# Altium schematic symbol library WR-FPC.SchLib: 258 symbols (part 1 of 5)
Pins are listed as number, name and electrical type; pins without a type are passive.

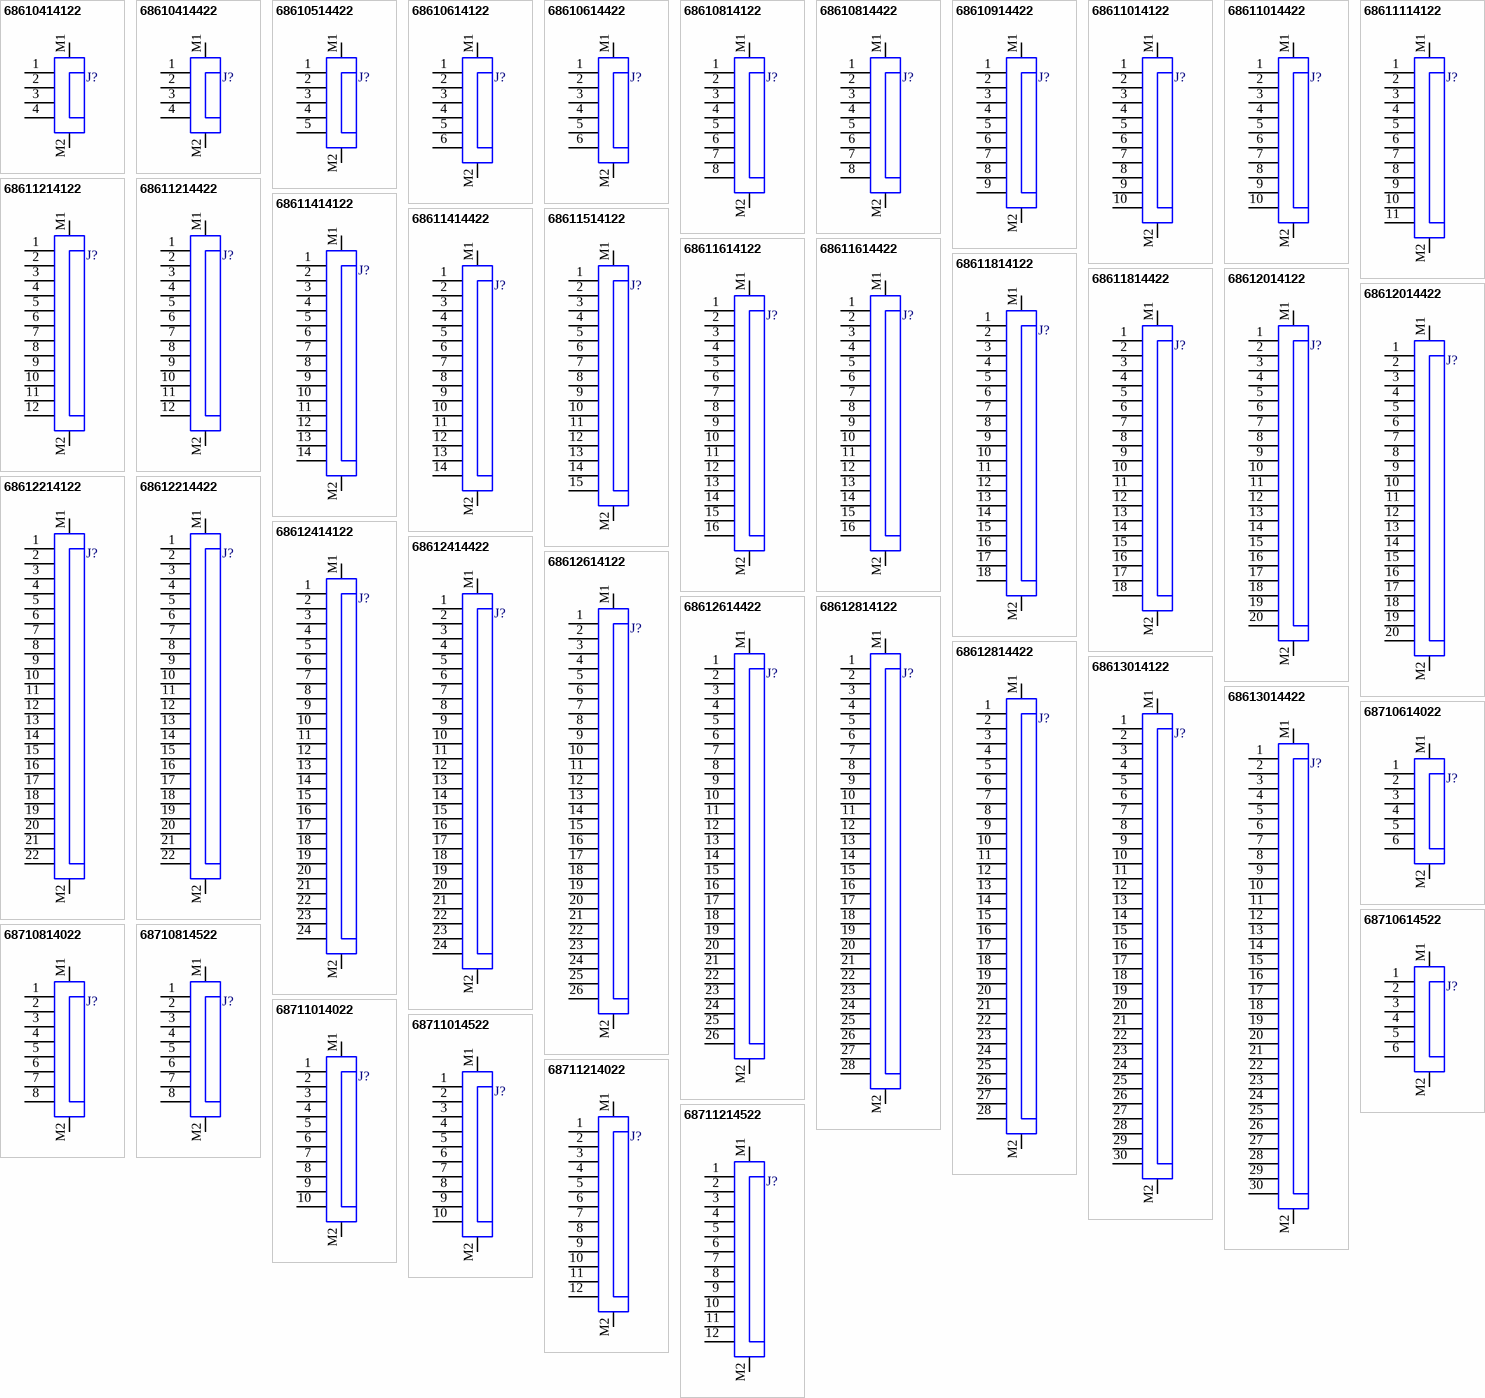
[diagram p0: symbols 68610414122 to 68711214522]

## 68610414122
designator J?  (value not drawn)
WR-FPC SMT ZIF Horizontal Top Contact, pitch 1mm, Horizontal, 4pins; Manufacturer: Wurth Elektronik; Contact Resistance: 20mΩ; Rated Current: 1A; Working Voltage: 125VAC; ComponentLink1Description: Website Link; ComponentLink1URL: https://www.we-online.com/redexpert/article/68610414122?ad; ComponentLink2Description: Datasheet Link; ComponentLink2URL: https://www.we-online.com/redexpert/spec/68610414122?ad; Manufacturer Part Number: 68610414122; Category: FPC Connectors; Match Code: WR-FPC; Mount: Surface Mount; Operating Temperature Max: 85°C; Operating Temperature Min: -25°C; Packaging: Tape and Reel; Length: 11mm; Width: 7.1mm; Height: 3mm; Number of Pins: 4; Orientation: Horizontal; Pitch: 1mm
footprint 68610414122
pins: 1, 2, 3, 4, M1, M2

## 68610414422
designator J?  (value not drawn)
WR-FPC SMT ZIF Horizontal Bottom Contact, pitch 1mm, Horizontal, 4pins; Manufacturer: Wurth Elektronik; Contact Resistance: 20mΩ; Rated Current: 1A; Working Voltage: 125VAC; ComponentLink1Description: Website Link; ComponentLink1URL: https://www.we-online.com/redexpert/article/68610414422?ad; ComponentLink2Description: Datasheet Link; ComponentLink2URL: https://www.we-online.com/redexpert/spec/68610414422?ad; Manufacturer Part Number: 68610414422; Category: FPC Connectors; Match Code: WR-FPC; Mount: Surface Mount; Operating Temperature Max: 85°C; Operating Temperature Min: -25°C; Packaging: Tape and Reel; Length: 11mm; Width: 7.1mm; Height: 3mm; Number of Pins: 4; Orientation: Horizontal; Pitch: 1mm
footprint 68610414422
pins: 1, 2, 3, 4, M1, M2

## 68610514422
designator J?  (value not drawn)
WR-FPC SMT ZIF Horizontal Bottom Contact, pitch 1mm, Horizontal, 5pins; Manufacturer: Wurth Elektronik; Contact Resistance: 20mΩ; Rated Current: 1A; Working Voltage: 125VAC; ComponentLink1Description: Website Link; ComponentLink1URL: https://www.we-online.com/redexpert/article/68610514422?ad; ComponentLink2Description: Datasheet Link; ComponentLink2URL: https://www.we-online.com/redexpert/spec/68610514422?ad; Manufacturer Part Number: 68610514422; Category: FPC Connectors; Match Code: WR-FPC; Mount: Surface Mount; Operating Temperature Max: 85°C; Operating Temperature Min: -25°C; Packaging: Tape and Reel; Length: 12mm; Width: 7.1mm; Height: 3mm; Number of Pins: 5; Orientation: Horizontal; Pitch: 1mm
footprint 68610514422
pins: 1, 2, 3, 4, 5, M1, M2

## 68610614122
designator J?  (value not drawn)
WR-FPC SMT ZIF Horizontal Top Contact, pitch 1mm, Horizontal, 6pins; Manufacturer: Wurth Elektronik; Contact Resistance: 20mΩ; Rated Current: 1A; Working Voltage: 125VAC; ComponentLink1Description: Website Link; ComponentLink1URL: https://www.we-online.com/redexpert/article/68610614122?ad; ComponentLink2Description: Datasheet Link; ComponentLink2URL: https://www.we-online.com/redexpert/spec/68610614122?ad; Manufacturer Part Number: 68610614122; Category: FPC Connectors; Match Code: WR-FPC; Mount: Surface Mount; Operating Temperature Max: 85°C; Operating Temperature Min: -25°C; Packaging: Tape and Reel; Length: 13mm; Width: 7.1mm; Height: 3mm; Number of Pins: 6; Orientation: Horizontal; Pitch: 1mm
footprint 68610614122
pins: 1, 2, 3, 4, 5, 6, M1, M2

## 68610614422
designator J?  (value not drawn)
WR-FPC SMT ZIF Horizontal Bottom Contact, pitch 1mm, Horizontal, 6pins; Manufacturer: Wurth Elektronik; Contact Resistance: 20mΩ; Rated Current: 1A; Working Voltage: 125VAC; ComponentLink1Description: Website Link; ComponentLink1URL: https://www.we-online.com/redexpert/article/68610614422?ad; ComponentLink2Description: Datasheet Link; ComponentLink2URL: https://www.we-online.com/redexpert/spec/68610614422?ad; Manufacturer Part Number: 68610614422; Category: FPC Connectors; Match Code: WR-FPC; Mount: Surface Mount; Operating Temperature Max: 85°C; Operating Temperature Min: -25°C; Packaging: Tape and Reel; Length: 13mm; Width: 7.1mm; Height: 3mm; Number of Pins: 6; Orientation: Horizontal; Pitch: 1mm
footprint 68610614422
pins: 1, 2, 3, 4, 5, 6, M1, M2

## 68610814122
designator J?  (value not drawn)
WR-FPC SMT ZIF Horizontal Top Contact, pitch 1mm, Horizontal, 8pins; Manufacturer: Wurth Elektronik; Contact Resistance: 20mΩ; Rated Current: 1A; Working Voltage: 125VAC; ComponentLink1Description: Website Link; ComponentLink1URL: https://www.we-online.com/redexpert/article/68610814122?ad; ComponentLink2Description: Datasheet Link; ComponentLink2URL: https://www.we-online.com/redexpert/spec/68610814122?ad; Manufacturer Part Number: 68610814122; Category: FPC Connectors; Match Code: WR-FPC; Mount: Surface Mount; Operating Temperature Max: 85°C; Operating Temperature Min: -25°C; Packaging: Tape and Reel; Length: 15mm; Width: 7.1mm; Height: 3mm; Number of Pins: 8; Orientation: Horizontal; Pitch: 1mm
footprint 68610814122
pins: 1, 2, 3, 4, 5, 6, 7, 8, M1, M2

## 68610814422
designator J?  (value not drawn)
WR-FPC SMT ZIF Horizontal Bottom Contact, pitch 1mm, Horizontal, 8pins; Manufacturer: Wurth Elektronik; Contact Resistance: 20mΩ; Rated Current: 1A; Working Voltage: 125VAC; ComponentLink1Description: Website Link; ComponentLink1URL: https://www.we-online.com/redexpert/article/68610814422?ad; ComponentLink2Description: Datasheet Link; ComponentLink2URL: https://www.we-online.com/redexpert/spec/68610814422?ad; Manufacturer Part Number: 68610814422; Category: FPC Connectors; Match Code: WR-FPC; Mount: Surface Mount; Operating Temperature Max: 85°C; Operating Temperature Min: -25°C; Packaging: Tape and Reel; Length: 15mm; Width: 7.1mm; Height: 3mm; Number of Pins: 8; Orientation: Horizontal; Pitch: 1mm
footprint 68610814422
pins: 1, 2, 3, 4, 5, 6, 7, 8, M1, M2

## 68610914422
designator J?  (value not drawn)
WR-FPC SMT ZIF Horizontal Bottom Contact, pitch 1mm, Horizontal, 9pins; Manufacturer: Wurth Elektronik; Contact Resistance: 20mΩ; Rated Current: 1A; Working Voltage: 125VAC; ComponentLink1Description: Website Link; ComponentLink1URL: https://www.we-online.com/redexpert/article/68610914422?ad; ComponentLink2Description: Datasheet Link; ComponentLink2URL: https://www.we-online.com/redexpert/spec/68610914422?ad; Manufacturer Part Number: 68610914422; Category: FPC Connectors; Match Code: WR-FPC; Mount: Surface Mount; Operating Temperature Max: 85°C; Operating Temperature Min: -25°C; Packaging: Tape and Reel; Length: 16mm; Width: 7.1mm; Height: 3mm; Number of Pins: 9; Orientation: Horizontal; Pitch: 1mm
footprint 68610914422
pins: 1, 2, 3, 4, 5, 6, 7, 8, 9, M1, M2

## 68611014122
designator J?  (value not drawn)
WR-FPC SMT ZIF Horizontal Top Contact, pitch 1mm, Horizontal, 10pins; Manufacturer: Wurth Elektronik; Contact Resistance: 20mΩ; Rated Current: 1A; Working Voltage: 125VAC; ComponentLink1Description: Website Link; ComponentLink1URL: https://www.we-online.com/redexpert/article/68611014122?ad; ComponentLink2Description: Datasheet Link; ComponentLink2URL: https://www.we-online.com/redexpert/spec/68611014122?ad; Manufacturer Part Number: 68611014122; Category: FPC Connectors; Match Code: WR-FPC; Mount: Surface Mount; Operating Temperature Max: 85°C; Operating Temperature Min: -25°C; Packaging: Tape and Reel; Length: 17mm; Width: 7.1mm; Height: 3mm; Number of Pins: 10; Orientation: Horizontal; Pitch: 1mm
footprint 68611014122
pins: 1, 2, 3, 4, 5, 6, 7, 8, 9, 10, M1, M2

## 68611014422
designator J?  (value not drawn)
WR-FPC SMT ZIF Horizontal Bottom Contact, pitch 1mm, Horizontal, 10pins; Manufacturer: Wurth Elektronik; Contact Resistance: 20mΩ; Rated Current: 1A; Working Voltage: 125VAC; ComponentLink1Description: Website Link; ComponentLink1URL: https://www.we-online.com/redexpert/article/68611014422?ad; ComponentLink2Description: Datasheet Link; ComponentLink2URL: https://www.we-online.com/redexpert/spec/68611014422?ad; Manufacturer Part Number: 68611014422; Category: FPC Connectors; Match Code: WR-FPC; Mount: Surface Mount; Operating Temperature Max: 85°C; Operating Temperature Min: -25°C; Packaging: Tape and Reel; Length: 17mm; Width: 7.1mm; Height: 3mm; Number of Pins: 10; Orientation: Horizontal; Pitch: 1mm
footprint 68611014422
pins: 1, 2, 3, 4, 5, 6, 7, 8, 9, 10, M1, M2

## 68611114122
designator J?  (value not drawn)
WR-FPC SMT ZIF Horizontal Top Contact, pitch 1mm, Horizontal, 11pins; Manufacturer: Wurth Elektronik; Contact Resistance: 20mΩ; Rated Current: 1A; Working Voltage: 125VAC; ComponentLink1Description: Website Link; ComponentLink1URL: https://www.we-online.com/redexpert/article/68611114122?ad; ComponentLink2Description: Datasheet Link; ComponentLink2URL: https://www.we-online.com/redexpert/spec/68611114122?ad; Manufacturer Part Number: 68611114122; Category: FPC Connectors; Match Code: WR-FPC; Mount: Surface Mount; Operating Temperature Max: 85°C; Operating Temperature Min: -25°C; Packaging: Tape and Reel; Length: 18mm; Width: 7.1mm; Height: 3mm; Number of Pins: 11; Orientation: Horizontal; Pitch: 1mm
footprint 68611114122
pins: 1, 2, 3, 4, 5, 6, 7, 8, 9, 10, 11, M1, M2

## 68611214122
designator J?  (value not drawn)
WR-FPC SMT ZIF Horizontal Top Contact, pitch 1mm, Horizontal, 12pins; Manufacturer: Wurth Elektronik; Contact Resistance: 20mΩ; Rated Current: 1A; Working Voltage: 125VAC; ComponentLink1Description: Website Link; ComponentLink1URL: https://www.we-online.com/redexpert/article/68611214122?ad; ComponentLink2Description: Datasheet Link; ComponentLink2URL: https://www.we-online.com/redexpert/spec/68611214122?ad; Manufacturer Part Number: 68611214122; Category: FPC Connectors; Match Code: WR-FPC; Mount: Surface Mount; Operating Temperature Max: 85°C; Operating Temperature Min: -25°C; Packaging: Tape and Reel; Length: 19mm; Width: 7.1mm; Height: 3mm; Number of Pins: 12; Orientation: Horizontal; Pitch: 1mm
footprint 68611214122
pins: 1, 2, 3, 4, 5, 6, 7, 8, 9, 10, 11, 12, M1, M2

## 68611214422
designator J?  (value not drawn)
WR-FPC SMT ZIF Horizontal Bottom Contact, pitch 1mm, Horizontal, 12pins; Manufacturer: Wurth Elektronik; Contact Resistance: 20mΩ; Rated Current: 1A; Working Voltage: 125VAC; ComponentLink1Description: Website Link; ComponentLink1URL: https://www.we-online.com/redexpert/article/68611214422?ad; ComponentLink2Description: Datasheet Link; ComponentLink2URL: https://www.we-online.com/redexpert/spec/68611214422?ad; Manufacturer Part Number: 68611214422; Category: FPC Connectors; Match Code: WR-FPC; Mount: Surface Mount; Operating Temperature Max: 85°C; Operating Temperature Min: -25°C; Packaging: Tape and Reel; Length: 19mm; Width: 7.1mm; Height: 3mm; Number of Pins: 12; Orientation: Horizontal; Pitch: 1mm
footprint 68611214422
pins: 1, 2, 3, 4, 5, 6, 7, 8, 9, 10, 11, 12, M1, M2

## 68611414122
designator J?  (value not drawn)
WR-FPC SMT ZIF Horizontal Top Contact, pitch 1mm, Horizontal, 14pins; Manufacturer: Wurth Elektronik; Contact Resistance: 20mΩ; Rated Current: 1A; Working Voltage: 125VAC; ComponentLink1Description: Website Link; ComponentLink1URL: https://www.we-online.com/redexpert/article/68611414122?ad; ComponentLink2Description: Datasheet Link; ComponentLink2URL: https://www.we-online.com/redexpert/spec/68611414122?ad; Manufacturer Part Number: 68611414122; Category: FPC Connectors; Match Code: WR-FPC; Mount: Surface Mount; Operating Temperature Max: 85°C; Operating Temperature Min: -25°C; Packaging: Tape and Reel; Length: 21mm; Width: 7.1mm; Height: 3mm; Number of Pins: 14; Orientation: Horizontal; Pitch: 1mm
footprint 68611414122
pins: 1, 2, 3, 4, 5, 6, 7, 8, 9, 10, 11, 12, 13, 14, M1, M2

## 68611414422
designator J?  (value not drawn)
WR-FPC SMT ZIF Horizontal Bottom Contact, pitch 1mm, Horizontal, 14pins; Manufacturer: Wurth Elektronik; Contact Resistance: 20mΩ; Rated Current: 1A; Working Voltage: 125VAC; ComponentLink1Description: Website Link; ComponentLink1URL: https://www.we-online.com/redexpert/article/68611414422?ad; ComponentLink2Description: Datasheet Link; ComponentLink2URL: https://www.we-online.com/redexpert/spec/68611414422?ad; Manufacturer Part Number: 68611414422; Category: FPC Connectors; Match Code: WR-FPC; Mount: Surface Mount; Operating Temperature Max: 85°C; Operating Temperature Min: -25°C; Packaging: Tape and Reel; Length: 21mm; Width: 7.1mm; Height: 3mm; Number of Pins: 14; Orientation: Horizontal; Pitch: 1mm
footprint 68611414422
pins: 1, 2, 3, 4, 5, 6, 7, 8, 9, 10, 11, 12, 13, 14, M1, M2

## 68611514122
designator J?  (value not drawn)
WR-FPC SMT ZIF Horizontal Top Contact, pitch 1mm, Horizontal, 15pins; Manufacturer: Wurth Elektronik; Contact Resistance: 20mΩ; Rated Current: 1A; Working Voltage: 125VAC; ComponentLink1Description: Website Link; ComponentLink1URL: https://www.we-online.com/redexpert/article/68611514122?ad; ComponentLink2Description: Datasheet Link; ComponentLink2URL: https://www.we-online.com/redexpert/spec/68611514122?ad; Manufacturer Part Number: 68611514122; Category: FPC Connectors; Match Code: WR-FPC; Mount: Surface Mount; Operating Temperature Max: 85°C; Operating Temperature Min: -25°C; Packaging: Tape and Reel; Length: 22mm; Width: 7.1mm; Height: 3mm; Number of Pins: 15; Orientation: Horizontal; Pitch: 1mm
footprint 68611514122
pins: 1, 2, 3, 4, 5, 6, 7, 8, 9, 10, 11, 12, 13, 14, 15, M1, M2

## 68611614122
designator J?  (value not drawn)
WR-FPC SMT ZIF Horizontal Top Contact, pitch 1mm, Horizontal, 16pins; Manufacturer: Wurth Elektronik; Contact Resistance: 20mΩ; Rated Current: 1A; Working Voltage: 125VAC; ComponentLink1Description: Website Link; ComponentLink1URL: https://www.we-online.com/redexpert/article/68611614122?ad; ComponentLink2Description: Datasheet Link; ComponentLink2URL: https://www.we-online.com/redexpert/spec/68611614122?ad; Manufacturer Part Number: 68611614122; Category: FPC Connectors; Match Code: WR-FPC; Mount: Surface Mount; Operating Temperature Max: 85°C; Operating Temperature Min: -25°C; Packaging: Tape and Reel; Length: 23mm; Width: 7.1mm; Height: 3mm; Number of Pins: 16; Orientation: Horizontal; Pitch: 1mm
footprint 68611614122
pins: 1, 2, 3, 4, 5, 6, 7, 8, 9, 10, 11, 12, 13, 14, 15, 16, M1, M2

## 68611614422
designator J?  (value not drawn)
WR-FPC SMT ZIF Horizontal Bottom Contact, pitch 1mm, Horizontal, 16pins; Manufacturer: Wurth Elektronik; Contact Resistance: 20mΩ; Rated Current: 1A; Working Voltage: 125VAC; ComponentLink1Description: Website Link; ComponentLink1URL: https://www.we-online.com/redexpert/article/68611614422?ad; ComponentLink2Description: Datasheet Link; ComponentLink2URL: https://www.we-online.com/redexpert/spec/68611614422?ad; Manufacturer Part Number: 68611614422; Category: FPC Connectors; Match Code: WR-FPC; Mount: Surface Mount; Operating Temperature Max: 85°C; Operating Temperature Min: -25°C; Packaging: Tape and Reel; Length: 23mm; Width: 7.1mm; Height: 3mm; Number of Pins: 16; Orientation: Horizontal; Pitch: 1mm
footprint 68611614422
pins: 1, 2, 3, 4, 5, 6, 7, 8, 9, 10, 11, 12, 13, 14, 15, 16, M1, M2

## 68611814122
designator J?  (value not drawn)
WR-FPC SMT ZIF Horizontal Top Contact, pitch 1mm, Horizontal, 18pins; Manufacturer: Wurth Elektronik; Contact Resistance: 20mΩ; Rated Current: 1A; Working Voltage: 125VAC; ComponentLink1Description: Website Link; ComponentLink1URL: https://www.we-online.com/redexpert/article/68611814122?ad; ComponentLink2Description: Datasheet Link; ComponentLink2URL: https://www.we-online.com/redexpert/spec/68611814122?ad; Manufacturer Part Number: 68611814122; Category: FPC Connectors; Match Code: WR-FPC; Mount: Surface Mount; Operating Temperature Max: 85°C; Operating Temperature Min: -25°C; Packaging: Tape and Reel; Length: 25mm; Width: 7.1mm; Height: 3mm; Number of Pins: 18; Orientation: Horizontal; Pitch: 1mm
footprint 68611814122
pins: 1, 2, 3, 4, 5, 6, 7, 8, 9, 10, 11, 12, 13, 14, 15, 16, 17, 18, M1, M2

## 68611814422
designator J?  (value not drawn)
WR-FPC SMT ZIF Horizontal Bottom Contact, pitch 1mm, Horizontal, 18pins; Manufacturer: Wurth Elektronik; Contact Resistance: 20mΩ; Rated Current: 1A; Working Voltage: 125VAC; ComponentLink1Description: Website Link; ComponentLink1URL: https://www.we-online.com/redexpert/article/68611814422?ad; ComponentLink2Description: Datasheet Link; ComponentLink2URL: https://www.we-online.com/redexpert/spec/68611814422?ad; Manufacturer Part Number: 68611814422; Category: FPC Connectors; Match Code: WR-FPC; Mount: Surface Mount; Operating Temperature Max: 85°C; Operating Temperature Min: -25°C; Packaging: Tape and Reel; Length: 25mm; Width: 7.1mm; Height: 3mm; Number of Pins: 18; Orientation: Horizontal; Pitch: 1mm
footprint 68611814422
pins: 1, 2, 3, 4, 5, 6, 7, 8, 9, 10, 11, 12, 13, 14, 15, 16, 17, 18, M1, M2

## 68612014122
designator J?  (value not drawn)
WR-FPC SMT ZIF Horizontal Top Contact, pitch 1mm, Horizontal, 20pins; Manufacturer: Wurth Elektronik; Contact Resistance: 20mΩ; Rated Current: 1A; Working Voltage: 125VAC; ComponentLink1Description: Website Link; ComponentLink1URL: https://www.we-online.com/redexpert/article/68612014122?ad; ComponentLink2Description: Datasheet Link; ComponentLink2URL: https://www.we-online.com/redexpert/spec/68612014122?ad; Manufacturer Part Number: 68612014122; Category: FPC Connectors; Match Code: WR-FPC; Mount: Surface Mount; Operating Temperature Max: 85°C; Operating Temperature Min: -25°C; Packaging: Tape and Reel; Length: 27mm; Width: 7.1mm; Height: 3mm; Number of Pins: 20; Orientation: Horizontal; Pitch: 1mm
footprint 68612014122
pins: 1, 2, 3, 4, 5, 6, 7, 8, 9, 10, 11, 12, 13, 14, 15, 16, 17, 18, 19, 20, M1, M2

## 68612014422
designator J?  (value not drawn)
WR-FPC SMT ZIF Horizontal Bottom Contact, pitch 1mm, Horizontal, 20pins; Manufacturer: Wurth Elektronik; Contact Resistance: 20mΩ; Rated Current: 1A; Working Voltage: 125VAC; ComponentLink1Description: Website Link; ComponentLink1URL: https://www.we-online.com/redexpert/article/68612014422?ad; ComponentLink2Description: Datasheet Link; ComponentLink2URL: https://www.we-online.com/redexpert/spec/68612014422?ad; Manufacturer Part Number: 68612014422; Category: FPC Connectors; Match Code: WR-FPC; Mount: Surface Mount; Operating Temperature Max: 85°C; Operating Temperature Min: -25°C; Packaging: Tape and Reel; Length: 27mm; Width: 7.1mm; Height: 3mm; Number of Pins: 20; Orientation: Horizontal; Pitch: 1mm
footprint 68612014422
pins: 1, 2, 3, 4, 5, 6, 7, 8, 9, 10, 11, 12, 13, 14, 15, 16, 17, 18, 19, 20, M1, M2

## 68612214122
designator J?  (value not drawn)
WR-FPC SMT ZIF Horizontal Top Contact, pitch 1mm, Horizontal, 22pins; Manufacturer: Wurth Elektronik; Contact Resistance: 20mΩ; Rated Current: 1A; Working Voltage: 125VAC; ComponentLink1Description: Website Link; ComponentLink1URL: https://www.we-online.com/redexpert/article/68612214122?ad; ComponentLink2Description: Datasheet Link; ComponentLink2URL: https://www.we-online.com/redexpert/spec/68612214122?ad; Manufacturer Part Number: 68612214122; Category: FPC Connectors; Match Code: WR-FPC; Mount: Surface Mount; Operating Temperature Max: 85°C; Operating Temperature Min: -25°C; Packaging: Tape and Reel; Length: 29mm; Width: 7.1mm; Height: 3mm; Number of Pins: 22; Orientation: Horizontal; Pitch: 1mm
footprint 68612214122
pins: 1, 2, 3, 4, 5, 6, 7, 8, 9, 10, 11, 12, 13, 14, 15, 16, 17, 18, 19, 20, 21, 22, M1, M2

## 68612214422
designator J?  (value not drawn)
WR-FPC SMT ZIF Horizontal Bottom Contact, pitch 1mm, Horizontal, 22pins; Manufacturer: Wurth Elektronik; Contact Resistance: 20mΩ; Rated Current: 1A; Working Voltage: 125VAC; ComponentLink1Description: Website Link; ComponentLink1URL: https://www.we-online.com/redexpert/article/68612214422?ad; ComponentLink2Description: Datasheet Link; ComponentLink2URL: https://www.we-online.com/redexpert/spec/68612214422?ad; Manufacturer Part Number: 68612214422; Category: FPC Connectors; Match Code: WR-FPC; Mount: Surface Mount; Operating Temperature Max: 85°C; Operating Temperature Min: -25°C; Packaging: Tape and Reel; Length: 29mm; Width: 7.1mm; Height: 3mm; Number of Pins: 22; Orientation: Horizontal; Pitch: 1mm
footprint 68612214422
pins: 1, 2, 3, 4, 5, 6, 7, 8, 9, 10, 11, 12, 13, 14, 15, 16, 17, 18, 19, 20, 21, 22, M1, M2

## 68612414122
designator J?  (value not drawn)
WR-FPC SMT ZIF Horizontal Top Contact, pitch 1mm, Horizontal, 24pins; Manufacturer: Wurth Elektronik; Contact Resistance: 20mΩ; Rated Current: 1A; Working Voltage: 125VAC; ComponentLink1Description: Website Link; ComponentLink1URL: https://www.we-online.com/redexpert/article/68612414122?ad; ComponentLink2Description: Datasheet Link; ComponentLink2URL: https://www.we-online.com/redexpert/spec/68612414122?ad; Manufacturer Part Number: 68612414122; Category: FPC Connectors; Match Code: WR-FPC; Mount: Surface Mount; Operating Temperature Max: 85°C; Operating Temperature Min: -25°C; Packaging: Tape and Reel; Length: 31mm; Width: 7.1mm; Height: 3mm; Number of Pins: 24; Orientation: Horizontal; Pitch: 1mm
footprint 68612414122
pins: 1, 2, 3, 4, 5, 6, 7, 8, 9, 10, 11, 12, 13, 14, 15, 16, 17, 18, 19, 20, 21, 22, 23, 24, M1, M2

## 68612414422
designator J?  (value not drawn)
WR-FPC SMT ZIF Horizontal Bottom Contact, pitch 1mm, Horizontal, 24pins; Manufacturer: Wurth Elektronik; Contact Resistance: 20mΩ; Rated Current: 1A; Working Voltage: 125VAC; ComponentLink1Description: Website Link; ComponentLink1URL: https://www.we-online.com/redexpert/article/68612414422?ad; ComponentLink2Description: Datasheet Link; ComponentLink2URL: https://www.we-online.com/redexpert/spec/68612414422?ad; Manufacturer Part Number: 68612414422; Category: FPC Connectors; Match Code: WR-FPC; Mount: Surface Mount; Operating Temperature Max: 85°C; Operating Temperature Min: -25°C; Packaging: Tape and Reel; Length: 31mm; Width: 7.1mm; Height: 3mm; Number of Pins: 24; Orientation: Horizontal; Pitch: 1mm
footprint 68612414422
pins: 1, 2, 3, 4, 5, 6, 7, 8, 9, 10, 11, 12, 13, 14, 15, 16, 17, 18, 19, 20, 21, 22, 23, 24, M1, M2

## 68612614122
designator J?  (value not drawn)
WR-FPC SMT ZIF Horizontal Top Contact, pitch 1mm, Horizontal, 26pins; Manufacturer: Wurth Elektronik; Contact Resistance: 20mΩ; Rated Current: 1A; Working Voltage: 125VAC; ComponentLink1Description: Website Link; ComponentLink1URL: https://www.we-online.com/redexpert/article/68612614122?ad; ComponentLink2Description: Datasheet Link; ComponentLink2URL: https://www.we-online.com/redexpert/spec/68612614122?ad; Manufacturer Part Number: 68612614122; Category: FPC Connectors; Match Code: WR-FPC; Mount: Surface Mount; Operating Temperature Max: 85°C; Operating Temperature Min: -25°C; Packaging: Tape and Reel; Length: 33mm; Width: 7.1mm; Height: 3mm; Number of Pins: 26; Orientation: Horizontal; Pitch: 1mm
footprint 68612614122
pins: 1, 2, 3, 4, 5, 6, 7, 8, 9, 10, 11, 12, 13, 14, 15, 16, 17, 18, 19, 20, 21, 22, 23, 24, 25, 26, M1, M2

## 68612614422
designator J?  (value not drawn)
WR-FPC SMT ZIF Horizontal Bottom Contact, pitch 1mm, Horizontal, 26pins; Manufacturer: Wurth Elektronik; Contact Resistance: 20mΩ; Rated Current: 1A; Working Voltage: 125VAC; ComponentLink1Description: Website Link; ComponentLink1URL: https://www.we-online.com/redexpert/article/68612614422?ad; ComponentLink2Description: Datasheet Link; ComponentLink2URL: https://www.we-online.com/redexpert/spec/68612614422?ad; Manufacturer Part Number: 68612614422; Category: FPC Connectors; Match Code: WR-FPC; Mount: Surface Mount; Operating Temperature Max: 85°C; Operating Temperature Min: -25°C; Packaging: Tape and Reel; Length: 33mm; Width: 7.1mm; Height: 3mm; Number of Pins: 26; Orientation: Horizontal; Pitch: 1mm
footprint 68612614422
pins: 1, 2, 3, 4, 5, 6, 7, 8, 9, 10, 11, 12, 13, 14, 15, 16, 17, 18, 19, 20, 21, 22, 23, 24, 25, 26, M1, M2

## 68612814122
designator J?  (value not drawn)
WR-FPC SMT ZIF Horizontal Top Contact, pitch 1mm, Horizontal, 28pins; Manufacturer: Wurth Elektronik; Contact Resistance: 20mΩ; Rated Current: 1A; Working Voltage: 125VAC; ComponentLink1Description: Website Link; ComponentLink1URL: https://www.we-online.com/redexpert/article/68612814122?ad; ComponentLink2Description: Datasheet Link; ComponentLink2URL: https://www.we-online.com/redexpert/spec/68612814122?ad; Manufacturer Part Number: 68612814122; Category: FPC Connectors; Match Code: WR-FPC; Mount: Surface Mount; Operating Temperature Max: 85°C; Operating Temperature Min: -25°C; Packaging: Tape and Reel; Length: 35mm; Width: 7.1mm; Height: 3mm; Number of Pins: 28; Orientation: Horizontal; Pitch: 1mm
footprint 68612814122
pins: 1, 2, 3, 4, 5, 6, 7, 8, 9, 10, 11, 12, 13, 14, 15, 16, 17, 18, 19, 20, 21, 22, 23, 24, 25, 26, 27, 28, M1, M2

## 68612814422
designator J?  (value not drawn)
WR-FPC SMT ZIF Horizontal Bottom Contact, pitch 1mm, Horizontal, 28pins; Manufacturer: Wurth Elektronik; Contact Resistance: 20mΩ; Rated Current: 1A; Working Voltage: 125VAC; ComponentLink1Description: Website Link; ComponentLink1URL: https://www.we-online.com/redexpert/article/68612814422?ad; ComponentLink2Description: Datasheet Link; ComponentLink2URL: https://www.we-online.com/redexpert/spec/68612814422?ad; Manufacturer Part Number: 68612814422; Category: FPC Connectors; Match Code: WR-FPC; Mount: Surface Mount; Operating Temperature Max: 85°C; Operating Temperature Min: -25°C; Packaging: Tape and Reel; Length: 35mm; Width: 7.1mm; Height: 3mm; Number of Pins: 28; Orientation: Horizontal; Pitch: 1mm
footprint 68612814422
pins: 1, 2, 3, 4, 5, 6, 7, 8, 9, 10, 11, 12, 13, 14, 15, 16, 17, 18, 19, 20, 21, 22, 23, 24, 25, 26, 27, 28, M1, M2

## 68613014122
designator J?  (value not drawn)
WR-FPC SMT ZIF Horizontal Top Contact, pitch 1mm, Horizontal, 30pins; Manufacturer: Wurth Elektronik; Contact Resistance: 20mΩ; Rated Current: 1A; Working Voltage: 125VAC; ComponentLink1Description: Website Link; ComponentLink1URL: https://www.we-online.com/redexpert/article/68613014122?ad; ComponentLink2Description: Datasheet Link; ComponentLink2URL: https://www.we-online.com/redexpert/spec/68613014122?ad; Manufacturer Part Number: 68613014122; Category: FPC Connectors; Match Code: WR-FPC; Mount: Surface Mount; Operating Temperature Max: 85°C; Operating Temperature Min: -25°C; Packaging: Tape and Reel; Length: 37mm; Width: 7.1mm; Height: 3mm; Number of Pins: 30; Orientation: Horizontal; Pitch: 1mm
footprint 68613014122
pins: 1, 2, 3, 4, 5, 6, 7, 8, 9, 10, 11, 12, 13, 14, 15, 16, 17, 18, 19, 20, 21, 22, 23, 24, 25, 26, 27, 28, 29, 30, M1, M2

## 68613014422
designator J?  (value not drawn)
WR-FPC SMT ZIF Horizontal Bottom Contact, pitch 1mm, Horizontal, 30pins; Manufacturer: Wurth Elektronik; Contact Resistance: 20mΩ; Rated Current: 1A; Working Voltage: 125VAC; ComponentLink1Description: Website Link; ComponentLink1URL: https://www.we-online.com/redexpert/article/68613014422?ad; ComponentLink2Description: Datasheet Link; ComponentLink2URL: https://www.we-online.com/redexpert/spec/68613014422?ad; Manufacturer Part Number: 68613014422; Category: FPC Connectors; Match Code: WR-FPC; Mount: Surface Mount; Operating Temperature Max: 85°C; Operating Temperature Min: -25°C; Packaging: Tape and Reel; Length: 37mm; Width: 7.1mm; Height: 3mm; Number of Pins: 30; Orientation: Horizontal; Pitch: 1mm
footprint 68613014422
pins: 1, 2, 3, 4, 5, 6, 7, 8, 9, 10, 11, 12, 13, 14, 15, 16, 17, 18, 19, 20, 21, 22, 23, 24, 25, 26, 27, 28, 29, 30, M1, M2

## 68710614022
designator J?  (value not drawn)
WR-FPC SMT ZIF Horizontal Top Contact, pitch 0.5mm, Horizontal, 6pins; Manufacturer: Wurth Elektronik; Contact Resistance: 20mΩ; Rated Current: 0.5A; Working Voltage: 50VAC; ComponentLink1Description: Website Link; ComponentLink1URL: https://www.we-online.com/redexpert/article/68710614022?ad; ComponentLink2Description: Datasheet Link; ComponentLink2URL: https://www.we-online.com/redexpert/spec/68710614022?ad; Manufacturer Part Number: 68710614022; Category: FPC Connectors; Match Code: WR-FPC; Mount: Surface Mount; Operating Temperature Max: 85°C; Operating Temperature Min: -25°C; Packaging: Tape and Reel; Length: 9.4mm; Width: 5.1mm; Height: 2.1mm; Number of Pins: 6; Orientation: Horizontal; Pitch: 0.5mm
footprint 68710614022
pins: 1, 2, 3, 4, 5, 6, M1, M2

## 68710614522
designator J?  (value not drawn)
WR-FPC SMT ZIF Horizontal Bottom Contact, pitch 0.5mm, Horizontal, 6pins; Manufacturer: Wurth Elektronik; Contact Resistance: 20mΩ; Rated Current: 0.5A; Working Voltage: 50VAC; ComponentLink1Description: Website Link; ComponentLink1URL: https://www.we-online.com/redexpert/article/68710614522?ad; ComponentLink2Description: Datasheet Link; ComponentLink2URL: https://www.we-online.com/redexpert/spec/68710614522?ad; Manufacturer Part Number: 68710614522; Category: FPC Connectors; Match Code: WR-FPC; Mount: Surface Mount; Operating Temperature Max: 85°C; Operating Temperature Min: -25°C; Packaging: Tape and Reel; Length: 9.4mm; Width: 5.1mm; Height: 2.1mm; Number of Pins: 6; Orientation: Horizontal; Pitch: 0.5mm
footprint 68710614522
pins: 1, 2, 3, 4, 5, 6, M1, M2

## 68710814022
designator J?  (value not drawn)
WR-FPC SMT ZIF Horizontal Top Contact, pitch 0.5mm, Horizontal, 8pins; Manufacturer: Wurth Elektronik; Contact Resistance: 20mΩ; Rated Current: 0.5A; Working Voltage: 50VAC; ComponentLink1Description: Website Link; ComponentLink1URL: https://www.we-online.com/redexpert/article/68710814022?ad; ComponentLink2Description: Datasheet Link; ComponentLink2URL: https://www.we-online.com/redexpert/spec/68710814022?ad; Manufacturer Part Number: 68710814022; Category: FPC Connectors; Match Code: WR-FPC; Mount: Surface Mount; Operating Temperature Max: 85°C; Operating Temperature Min: -25°C; Packaging: Tape and Reel; Length: 10.4mm; Width: 5.1mm; Height: 2.1mm; Number of Pins: 8; Orientation: Horizontal; Pitch: 0.5mm
footprint 68710814022
pins: 1, 2, 3, 4, 5, 6, 7, 8, M1, M2

## 68710814522
designator J?  (value not drawn)
WR-FPC SMT ZIF Horizontal Bottom Contact, pitch 0.5mm, Horizontal, 8pins; Manufacturer: Wurth Elektronik; Contact Resistance: 20mΩ; Rated Current: 0.5A; Working Voltage: 50VAC; ComponentLink1Description: Website Link; ComponentLink1URL: https://www.we-online.com/redexpert/article/68710814522?ad; ComponentLink2Description: Datasheet Link; ComponentLink2URL: https://www.we-online.com/redexpert/spec/68710814522?ad; Manufacturer Part Number: 68710814522; Category: FPC Connectors; Match Code: WR-FPC; Mount: Surface Mount; Operating Temperature Max: 85°C; Operating Temperature Min: -25°C; Packaging: Tape and Reel; Length: 10.4mm; Width: 5.1mm; Height: 2.1mm; Number of Pins: 8; Orientation: Horizontal; Pitch: 0.5mm
footprint 68710814522
pins: 1, 2, 3, 4, 5, 6, 7, 8, M1, M2

## 68711014022
designator J?  (value not drawn)
WR-FPC SMT ZIF Horizontal Top Contact, pitch 0.5mm, Horizontal, 10pins; Manufacturer: Wurth Elektronik; Contact Resistance: 20mΩ; Rated Current: 0.5A; Working Voltage: 50VAC; ComponentLink1Description: Website Link; ComponentLink1URL: https://www.we-online.com/redexpert/article/68711014022?ad; ComponentLink2Description: Datasheet Link; ComponentLink2URL: https://www.we-online.com/redexpert/spec/68711014022?ad; Manufacturer Part Number: 68711014022; Category: FPC Connectors; Match Code: WR-FPC; Mount: Surface Mount; Operating Temperature Max: 85°C; Operating Temperature Min: -25°C; Packaging: Tape and Reel; Length: 11.4mm; Width: 5.1mm; Height: 2.1mm; Number of Pins: 10; Orientation: Horizontal; Pitch: 0.5mm
footprint 68711014022
pins: 1, 2, 3, 4, 5, 6, 7, 8, 9, 10, M1, M2

## 68711014522
designator J?  (value not drawn)
WR-FPC SMT ZIF Horizontal Bottom Contact, pitch 0.5mm, Horizontal, 10pins; Manufacturer: Wurth Elektronik; Contact Resistance: 20mΩ; Rated Current: 0.5A; Working Voltage: 50VAC; ComponentLink1Description: Website Link; ComponentLink1URL: https://www.we-online.com/redexpert/article/68711014522?ad; ComponentLink2Description: Datasheet Link; ComponentLink2URL: https://www.we-online.com/redexpert/spec/68711014522?ad; Manufacturer Part Number: 68711014522; Category: FPC Connectors; Match Code: WR-FPC; Mount: Surface Mount; Operating Temperature Max: 85°C; Operating Temperature Min: -25°C; Packaging: Tape and Reel; Length: 11.4mm; Width: 5.1mm; Height: 2.1mm; Number of Pins: 10; Orientation: Horizontal; Pitch: 0.5mm
footprint 68711014522
pins: 1, 2, 3, 4, 5, 6, 7, 8, 9, 10, M1, M2

## 68711214022
designator J?  (value not drawn)
WR-FPC SMT ZIF Horizontal Top Contact, pitch 0.5mm, Horizontal, 12pins; Manufacturer: Wurth Elektronik; Contact Resistance: 20mΩ; Rated Current: 0.5A; Working Voltage: 50VAC; ComponentLink1Description: Website Link; ComponentLink1URL: https://www.we-online.com/redexpert/article/68711214022?ad; ComponentLink2Description: Datasheet Link; ComponentLink2URL: https://www.we-online.com/redexpert/spec/68711214022?ad; Manufacturer Part Number: 68711214022; Category: FPC Connectors; Match Code: WR-FPC; Mount: Surface Mount; Operating Temperature Max: 85°C; Operating Temperature Min: -25°C; Packaging: Tape and Reel; Length: 12.4mm; Width: 5.1mm; Height: 2.1mm; Number of Pins: 12; Orientation: Horizontal; Pitch: 0.5mm
footprint 68711214022
pins: 1, 2, 3, 4, 5, 6, 7, 8, 9, 10, 11, 12, M1, M2

## 68711214522
designator J?  (value not drawn)
WR-FPC SMT ZIF Horizontal Bottom Contact, pitch 0.5mm, Horizontal, 12pins; Manufacturer: Wurth Elektronik; Contact Resistance: 20mΩ; Rated Current: 0.5A; Working Voltage: 50VAC; ComponentLink1Description: Website Link; ComponentLink1URL: https://www.we-online.com/redexpert/article/68711214522?ad; ComponentLink2Description: Datasheet Link; ComponentLink2URL: https://www.we-online.com/redexpert/spec/68711214522?ad; Manufacturer Part Number: 68711214522; Category: FPC Connectors; Match Code: WR-FPC; Mount: Surface Mount; Operating Temperature Max: 85°C; Operating Temperature Min: -25°C; Packaging: Tape and Reel; Length: 12.4mm; Width: 5.1mm; Height: 2.1mm; Number of Pins: 12; Orientation: Horizontal; Pitch: 0.5mm
footprint 68711214522
pins: 1, 2, 3, 4, 5, 6, 7, 8, 9, 10, 11, 12, M1, M2

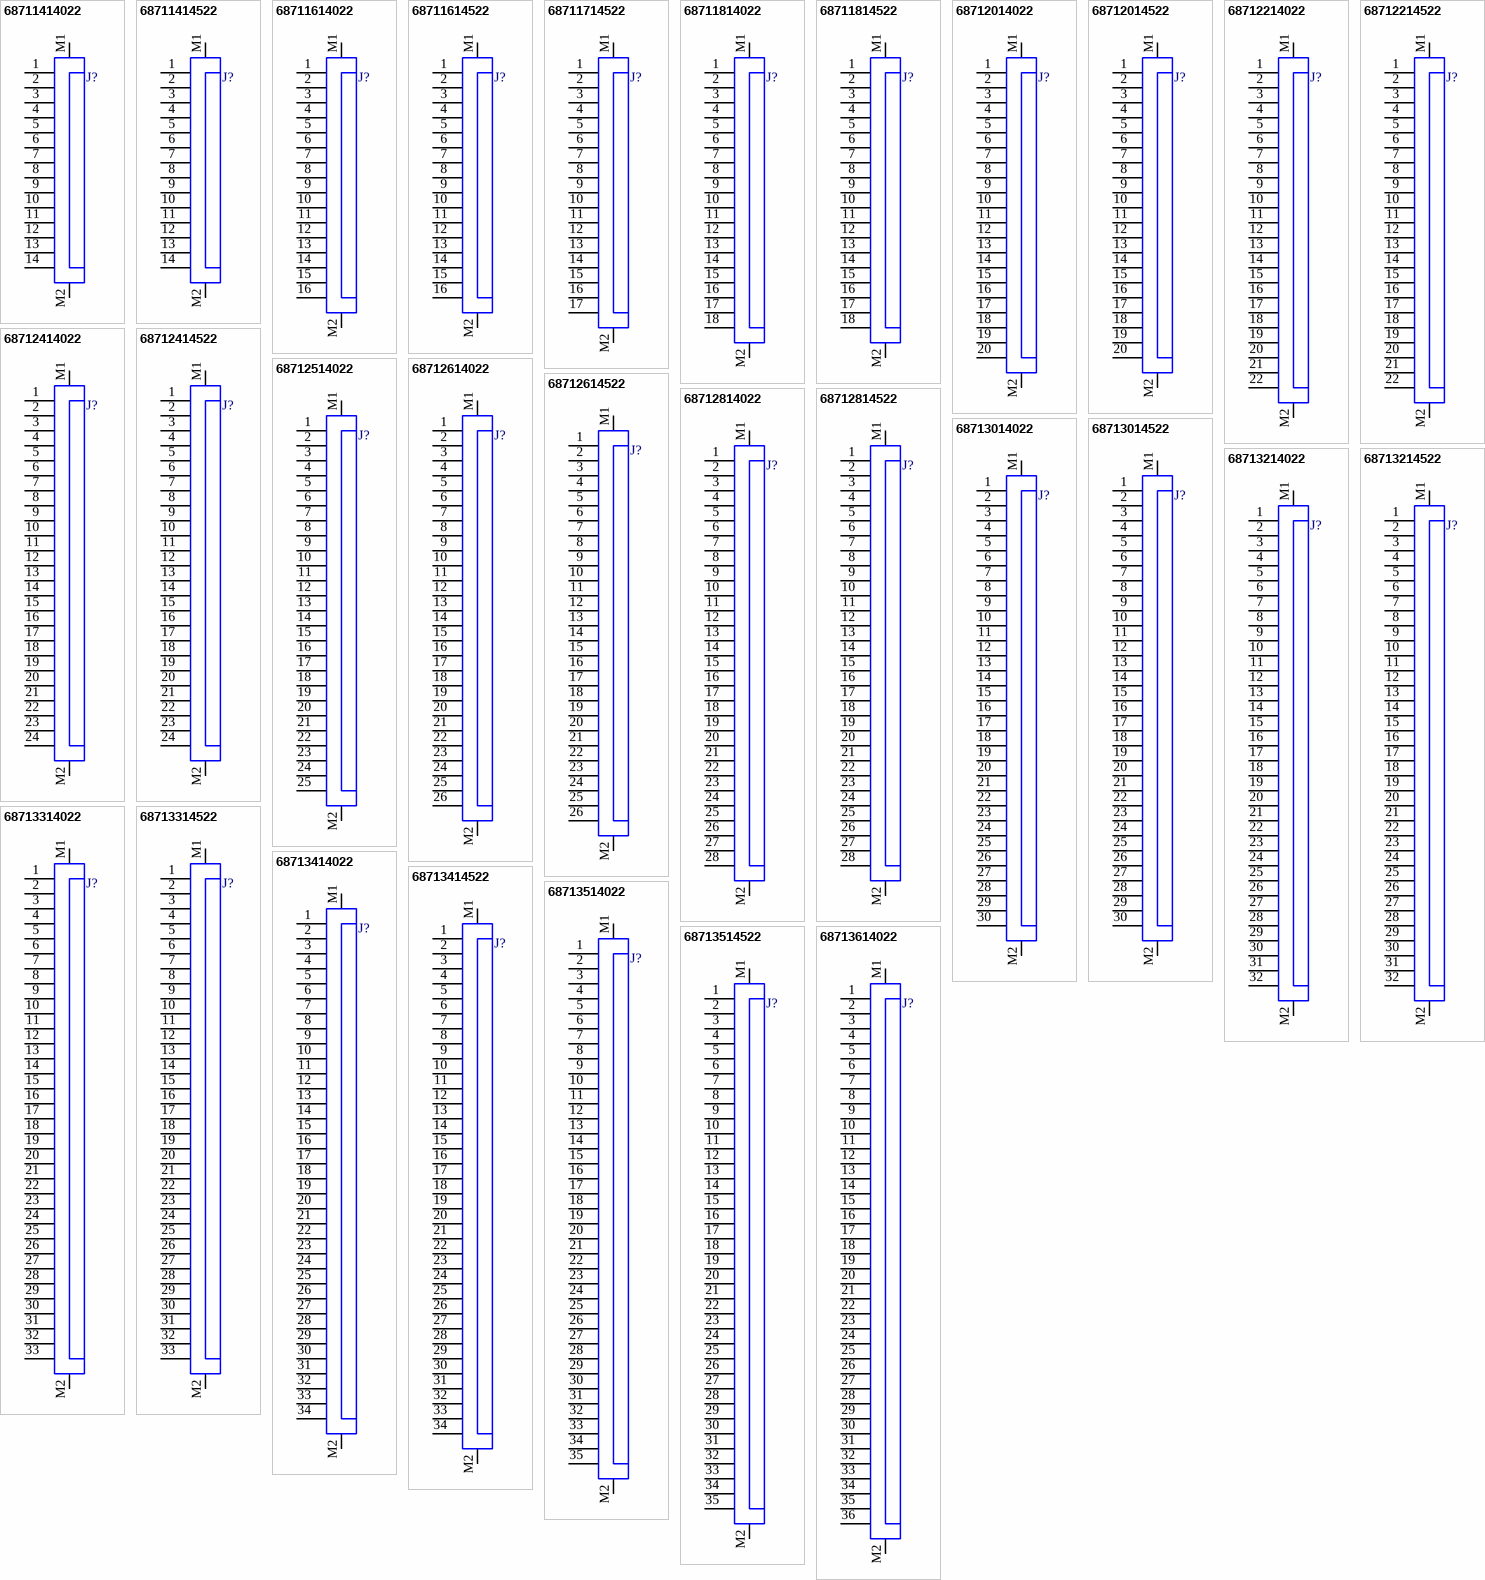
[diagram p1: symbols 68711414022 to 68713614022]

## 68711414022
designator J?  (value not drawn)
WR-FPC SMT ZIF Horizontal Top Contact, pitch 0.5mm, Horizontal, 14pins; Manufacturer: Wurth Elektronik; Contact Resistance: 20mΩ; Rated Current: 0.5A; Working Voltage: 50VAC; ComponentLink1Description: Website Link; ComponentLink1URL: https://www.we-online.com/redexpert/article/68711414022?ad; ComponentLink2Description: Datasheet Link; ComponentLink2URL: https://www.we-online.com/redexpert/spec/68711414022?ad; Manufacturer Part Number: 68711414022; Category: FPC Connectors; Match Code: WR-FPC; Mount: Surface Mount; Operating Temperature Max: 85°C; Operating Temperature Min: -25°C; Packaging: Tape and Reel; Length: 13.4mm; Width: 5.1mm; Height: 2.1mm; Number of Pins: 14; Orientation: Horizontal; Pitch: 0.5mm
footprint 68711414022
pins: 1, 2, 3, 4, 5, 6, 7, 8, 9, 10, 11, 12, 13, 14, M1, M2

## 68711414522
designator J?  (value not drawn)
WR-FPC SMT ZIF Horizontal Bottom Contact, pitch 0.5mm, Horizontal, 14pins; Manufacturer: Wurth Elektronik; Contact Resistance: 20mΩ; Rated Current: 0.5A; Working Voltage: 50VAC; ComponentLink1Description: Website Link; ComponentLink1URL: https://www.we-online.com/redexpert/article/68711414522?ad; ComponentLink2Description: Datasheet Link; ComponentLink2URL: https://www.we-online.com/redexpert/spec/68711414522?ad; Manufacturer Part Number: 68711414522; Category: FPC Connectors; Match Code: WR-FPC; Mount: Surface Mount; Operating Temperature Max: 85°C; Operating Temperature Min: -25°C; Packaging: Tape and Reel; Length: 13.4mm; Width: 5.1mm; Height: 2.1mm; Number of Pins: 14; Orientation: Horizontal; Pitch: 0.5mm
footprint 68711414522
pins: 1, 2, 3, 4, 5, 6, 7, 8, 9, 10, 11, 12, 13, 14, M1, M2

## 68711614022
designator J?  (value not drawn)
WR-FPC SMT ZIF Horizontal Top Contact, pitch 0.5mm, Horizontal, 16pins; Manufacturer: Wurth Elektronik; Contact Resistance: 20mΩ; Rated Current: 0.5A; Working Voltage: 50VAC; ComponentLink1Description: Website Link; ComponentLink1URL: https://www.we-online.com/redexpert/article/68711614022?ad; ComponentLink2Description: Datasheet Link; ComponentLink2URL: https://www.we-online.com/redexpert/spec/68711614022?ad; Manufacturer Part Number: 68711614022; Category: FPC Connectors; Match Code: WR-FPC; Mount: Surface Mount; Operating Temperature Max: 85°C; Operating Temperature Min: -25°C; Packaging: Tape and Reel; Length: 14.4mm; Width: 5.1mm; Height: 2.1mm; Number of Pins: 16; Orientation: Horizontal; Pitch: 0.5mm
footprint 68711614022
pins: 1, 2, 3, 4, 5, 6, 7, 8, 9, 10, 11, 12, 13, 14, 15, 16, M1, M2

## 68711614522
designator J?  (value not drawn)
WR-FPC SMT ZIF Horizontal Bottom Contact, pitch 0.5mm, Horizontal, 16pins; Manufacturer: Wurth Elektronik; Contact Resistance: 20mΩ; Rated Current: 0.5A; Working Voltage: 50VAC; ComponentLink1Description: Website Link; ComponentLink1URL: https://www.we-online.com/redexpert/article/68711614522?ad; ComponentLink2Description: Datasheet Link; ComponentLink2URL: https://www.we-online.com/redexpert/spec/68711614522?ad; Manufacturer Part Number: 68711614522; Category: FPC Connectors; Match Code: WR-FPC; Mount: Surface Mount; Operating Temperature Max: 85°C; Operating Temperature Min: -25°C; Packaging: Tape and Reel; Length: 14.4mm; Width: 5.1mm; Height: 2.1mm; Number of Pins: 16; Orientation: Horizontal; Pitch: 0.5mm
footprint 68711614522
pins: 1, 2, 3, 4, 5, 6, 7, 8, 9, 10, 11, 12, 13, 14, 15, 16, M1, M2

## 68711714522
designator J?  (value not drawn)
WR-FPC SMT ZIF Horizontal Bottom Contact, pitch 0.5mm, Horizontal, 17pins; Manufacturer: Wurth Elektronik; Contact Resistance: 20mΩ; Rated Current: 0.5A; Working Voltage: 50VAC; ComponentLink1Description: Website Link; ComponentLink1URL: https://www.we-online.com/redexpert/article/68711714522?ad; ComponentLink2Description: Datasheet Link; ComponentLink2URL: https://www.we-online.com/redexpert/spec/68711714522?ad; Manufacturer Part Number: 68711714522; Category: FPC Connectors; Match Code: WR-FPC; Mount: Surface Mount; Operating Temperature Max: 85°C; Operating Temperature Min: -25°C; Packaging: Tape and Reel; Length: 14.9mm; Width: 5.1mm; Height: 2.1mm; Number of Pins: 17; Orientation: Horizontal; Pitch: 0.5mm
footprint 68711714522
pins: 1, 2, 3, 4, 5, 6, 7, 8, 9, 10, 11, 12, 13, 14, 15, 16, 17, M1, M2

## 68711814022
designator J?  (value not drawn)
WR-FPC SMT ZIF Horizontal Top Contact, pitch 0.5mm, Horizontal, 18pins; Manufacturer: Wurth Elektronik; Contact Resistance: 20mΩ; Rated Current: 0.5A; Working Voltage: 50VAC; ComponentLink1Description: Website Link; ComponentLink1URL: https://www.we-online.com/redexpert/article/68711814022?ad; ComponentLink2Description: Datasheet Link; ComponentLink2URL: https://www.we-online.com/redexpert/spec/68711814022?ad; Manufacturer Part Number: 68711814022; Category: FPC Connectors; Match Code: WR-FPC; Mount: Surface Mount; Operating Temperature Max: 85°C; Operating Temperature Min: -25°C; Packaging: Tape and Reel; Length: 15.4mm; Width: 5.1mm; Height: 2.1mm; Number of Pins: 18; Orientation: Horizontal; Pitch: 0.5mm
footprint 68711814022
pins: 1, 2, 3, 4, 5, 6, 7, 8, 9, 10, 11, 12, 13, 14, 15, 16, 17, 18, M1, M2

## 68711814522
designator J?  (value not drawn)
WR-FPC SMT ZIF Horizontal Bottom Contact, pitch 0.5mm, Horizontal, 18pins; Manufacturer: Wurth Elektronik; Contact Resistance: 20mΩ; Rated Current: 0.5A; Working Voltage: 50VAC; ComponentLink1Description: Website Link; ComponentLink1URL: https://www.we-online.com/redexpert/article/68711814522?ad; ComponentLink2Description: Datasheet Link; ComponentLink2URL: https://www.we-online.com/redexpert/spec/68711814522?ad; Manufacturer Part Number: 68711814522; Category: FPC Connectors; Match Code: WR-FPC; Mount: Surface Mount; Operating Temperature Max: 85°C; Operating Temperature Min: -25°C; Packaging: Tape and Reel; Length: 15.4mm; Width: 5.1mm; Height: 2.1mm; Number of Pins: 18; Orientation: Horizontal; Pitch: 0.5mm
footprint 68711814522
pins: 1, 2, 3, 4, 5, 6, 7, 8, 9, 10, 11, 12, 13, 14, 15, 16, 17, 18, M1, M2

## 68712014022
designator J?  (value not drawn)
WR-FPC SMT ZIF Horizontal Top Contact, pitch 0.5mm, Horizontal, 20pins; Manufacturer: Wurth Elektronik; Contact Resistance: 20mΩ; Rated Current: 0.5A; Working Voltage: 50VAC; ComponentLink1Description: Website Link; ComponentLink1URL: https://www.we-online.com/redexpert/article/68712014022?ad; ComponentLink2Description: Datasheet Link; ComponentLink2URL: https://www.we-online.com/redexpert/spec/68712014022?ad; Manufacturer Part Number: 68712014022; Category: FPC Connectors; Match Code: WR-FPC; Mount: Surface Mount; Operating Temperature Max: 85°C; Operating Temperature Min: -25°C; Packaging: Tape and Reel; Length: 16.4mm; Width: 5.1mm; Height: 2.1mm; Number of Pins: 20; Orientation: Horizontal; Pitch: 0.5mm
footprint 68712014022
pins: 1, 2, 3, 4, 5, 6, 7, 8, 9, 10, 11, 12, 13, 14, 15, 16, 17, 18, 19, 20, M1, M2

## 68712014522
designator J?  (value not drawn)
WR-FPC SMT ZIF Horizontal Bottom Contact, pitch 0.5mm, Horizontal, 20pins; Manufacturer: Wurth Elektronik; Contact Resistance: 20mΩ; Rated Current: 0.5A; Working Voltage: 50VAC; ComponentLink1Description: Website Link; ComponentLink1URL: https://www.we-online.com/redexpert/article/68712014522?ad; ComponentLink2Description: Datasheet Link; ComponentLink2URL: https://www.we-online.com/redexpert/spec/68712014522?ad; Manufacturer Part Number: 68712014522; Category: FPC Connectors; Match Code: WR-FPC; Mount: Surface Mount; Operating Temperature Max: 85°C; Operating Temperature Min: -25°C; Packaging: Tape and Reel; Length: 16.4mm; Width: 5.1mm; Height: 2.1mm; Number of Pins: 20; Orientation: Horizontal; Pitch: 0.5mm
footprint 68712014522
pins: 1, 2, 3, 4, 5, 6, 7, 8, 9, 10, 11, 12, 13, 14, 15, 16, 17, 18, 19, 20, M1, M2

## 68712214022
designator J?  (value not drawn)
WR-FPC SMT ZIF Horizontal Top Contact, pitch 0.5mm, Horizontal, 22pins; Manufacturer: Wurth Elektronik; Contact Resistance: 20mΩ; Rated Current: 0.5A; Working Voltage: 50VAC; ComponentLink1Description: Website Link; ComponentLink1URL: https://www.we-online.com/redexpert/article/68712214022?ad; ComponentLink2Description: Datasheet Link; ComponentLink2URL: https://www.we-online.com/redexpert/spec/68712214022?ad; Manufacturer Part Number: 68712214022; Category: FPC Connectors; Match Code: WR-FPC; Mount: Surface Mount; Operating Temperature Max: 85°C; Operating Temperature Min: -25°C; Packaging: Tape and Reel; Length: 17.4mm; Width: 5.1mm; Height: 2.1mm; Number of Pins: 22; Orientation: Horizontal; Pitch: 0.5mm
footprint 68712214022
pins: 1, 2, 3, 4, 5, 6, 7, 8, 9, 10, 11, 12, 13, 14, 15, 16, 17, 18, 19, 20, 21, 22, M1, M2

## 68712214522
designator J?  (value not drawn)
WR-FPC SMT ZIF Horizontal Bottom Contact, pitch 0.5mm, Horizontal, 22pins; Manufacturer: Wurth Elektronik; Contact Resistance: 20mΩ; Rated Current: 0.5A; Working Voltage: 50VAC; ComponentLink1Description: Website Link; ComponentLink1URL: https://www.we-online.com/redexpert/article/68712214522?ad; ComponentLink2Description: Datasheet Link; ComponentLink2URL: https://www.we-online.com/redexpert/spec/68712214522?ad; Manufacturer Part Number: 68712214522; Category: FPC Connectors; Match Code: WR-FPC; Mount: Surface Mount; Operating Temperature Max: 85°C; Operating Temperature Min: -25°C; Packaging: Tape and Reel; Length: 17.4mm; Width: 5.1mm; Height: 2.1mm; Number of Pins: 22; Orientation: Horizontal; Pitch: 0.5mm
footprint 68712214522
pins: 1, 2, 3, 4, 5, 6, 7, 8, 9, 10, 11, 12, 13, 14, 15, 16, 17, 18, 19, 20, 21, 22, M1, M2

## 68712414022
designator J?  (value not drawn)
WR-FPC SMT ZIF Horizontal Top Contact, pitch 0.5mm, Horizontal, 24pins; Manufacturer: Wurth Elektronik; Contact Resistance: 20mΩ; Rated Current: 0.5A; Working Voltage: 50VAC; ComponentLink1Description: Website Link; ComponentLink1URL: https://www.we-online.com/redexpert/article/68712414022?ad; ComponentLink2Description: Datasheet Link; ComponentLink2URL: https://www.we-online.com/redexpert/spec/68712414022?ad; Manufacturer Part Number: 68712414022; Category: FPC Connectors; Match Code: WR-FPC; Mount: Surface Mount; Operating Temperature Max: 85°C; Operating Temperature Min: -25°C; Packaging: Tape and Reel; Length: 18.4mm; Width: 5.1mm; Height: 2.1mm; Number of Pins: 24; Orientation: Horizontal; Pitch: 0.5mm
footprint 68712414022
pins: 1, 2, 3, 4, 5, 6, 7, 8, 9, 10, 11, 12, 13, 14, 15, 16, 17, 18, 19, 20, 21, 22, 23, 24, M1, M2

## 68712414522
designator J?  (value not drawn)
WR-FPC SMT ZIF Horizontal Bottom Contact, pitch 0.5mm, Horizontal, 24pins; Manufacturer: Wurth Elektronik; Contact Resistance: 20mΩ; Rated Current: 0.5A; Working Voltage: 50VAC; ComponentLink1Description: Website Link; ComponentLink1URL: https://www.we-online.com/redexpert/article/68712414522?ad; ComponentLink2Description: Datasheet Link; ComponentLink2URL: https://www.we-online.com/redexpert/spec/68712414522?ad; Manufacturer Part Number: 68712414522; Category: FPC Connectors; Match Code: WR-FPC; Mount: Surface Mount; Operating Temperature Max: 85°C; Operating Temperature Min: -25°C; Packaging: Tape and Reel; Length: 18.4mm; Width: 5.1mm; Height: 2.1mm; Number of Pins: 24; Orientation: Horizontal; Pitch: 0.5mm
footprint 68712414522
pins: 1, 2, 3, 4, 5, 6, 7, 8, 9, 10, 11, 12, 13, 14, 15, 16, 17, 18, 19, 20, 21, 22, 23, 24, M1, M2

## 68712514022
designator J?  (value not drawn)
WR-FPC SMT ZIF Horizontal Top Contact, pitch 0.5mm, Horizontal, 25pins; Manufacturer: Wurth Elektronik; Contact Resistance: 20mΩ; Rated Current: 0.5A; Working Voltage: 50VAC; ComponentLink1Description: Website Link; ComponentLink1URL: https://www.we-online.com/redexpert/article/68712514022?ad; ComponentLink2Description: Datasheet Link; ComponentLink2URL: https://www.we-online.com/redexpert/spec/68712514022?ad; Manufacturer Part Number: 68712514022; Category: FPC Connectors; Match Code: WR-FPC; Mount: Surface Mount; Operating Temperature Max: 85°C; Operating Temperature Min: -25°C; Packaging: Tape and Reel; Length: 18.9mm; Width: 5.1mm; Height: 2.1mm; Number of Pins: 25; Orientation: Horizontal; Pitch: 0.5mm
footprint 68712514022
pins: 1, 2, 3, 4, 5, 6, 7, 8, 9, 10, 11, 12, 13, 14, 15, 16, 17, 18, 19, 20, 21, 22, 23, 24, 25, M1, M2

## 68712614022
designator J?  (value not drawn)
WR-FPC SMT ZIF Horizontal Top Contact, pitch 0.5mm, Horizontal, 26pins; Manufacturer: Wurth Elektronik; Contact Resistance: 20mΩ; Rated Current: 0.5A; Working Voltage: 50VAC; ComponentLink1Description: Website Link; ComponentLink1URL: https://www.we-online.com/redexpert/article/68712614022?ad; ComponentLink2Description: Datasheet Link; ComponentLink2URL: https://www.we-online.com/redexpert/spec/68712614022?ad; Manufacturer Part Number: 68712614022; Category: FPC Connectors; Match Code: WR-FPC; Mount: Surface Mount; Operating Temperature Max: 85°C; Operating Temperature Min: -25°C; Packaging: Tape and Reel; Length: 19.4mm; Width: 5.1mm; Height: 2.1mm; Number of Pins: 26; Orientation: Horizontal; Pitch: 0.5mm
footprint 68712614022
pins: 1, 2, 3, 4, 5, 6, 7, 8, 9, 10, 11, 12, 13, 14, 15, 16, 17, 18, 19, 20, 21, 22, 23, 24, 25, 26, M1, M2

## 68712614522
designator J?  (value not drawn)
WR-FPC SMT ZIF Horizontal Bottom Contact, pitch 0.5mm, Horizontal, 26pins; Manufacturer: Wurth Elektronik; Contact Resistance: 20mΩ; Rated Current: 0.5A; Working Voltage: 50VAC; ComponentLink1Description: Website Link; ComponentLink1URL: https://www.we-online.com/redexpert/article/68712614522?ad; ComponentLink2Description: Datasheet Link; ComponentLink2URL: https://www.we-online.com/redexpert/spec/68712614522?ad; Manufacturer Part Number: 68712614522; Category: FPC Connectors; Match Code: WR-FPC; Mount: Surface Mount; Operating Temperature Max: 85°C; Operating Temperature Min: -25°C; Packaging: Tape and Reel; Length: 19.4mm; Width: 5.1mm; Height: 2.1mm; Number of Pins: 26; Orientation: Horizontal; Pitch: 0.5mm
footprint 68712614522
pins: 1, 2, 3, 4, 5, 6, 7, 8, 9, 10, 11, 12, 13, 14, 15, 16, 17, 18, 19, 20, 21, 22, 23, 24, 25, 26, M1, M2

## 68712814022
designator J?  (value not drawn)
WR-FPC SMT ZIF Horizontal Top Contact, pitch 0.5mm, Horizontal, 28pins; Manufacturer: Wurth Elektronik; Contact Resistance: 20mΩ; Rated Current: 0.5A; Working Voltage: 50VAC; ComponentLink1Description: Website Link; ComponentLink1URL: https://www.we-online.com/redexpert/article/68712814022?ad; ComponentLink2Description: Datasheet Link; ComponentLink2URL: https://www.we-online.com/redexpert/spec/68712814022?ad; Manufacturer Part Number: 68712814022; Category: FPC Connectors; Match Code: WR-FPC; Mount: Surface Mount; Operating Temperature Max: 85°C; Operating Temperature Min: -25°C; Packaging: Tape and Reel; Length: 20.4mm; Width: 5.1mm; Height: 2.1mm; Number of Pins: 28; Orientation: Horizontal; Pitch: 0.5mm
footprint 68712814022
pins: 1, 2, 3, 4, 5, 6, 7, 8, 9, 10, 11, 12, 13, 14, 15, 16, 17, 18, 19, 20, 21, 22, 23, 24, 25, 26, 27, 28, M1, M2

## 68712814522
designator J?  (value not drawn)
WR-FPC SMT ZIF Horizontal Bottom Contact, pitch 0.5mm, Horizontal, 28pins; Manufacturer: Wurth Elektronik; Contact Resistance: 20mΩ; Rated Current: 0.5A; Working Voltage: 50VAC; ComponentLink1Description: Website Link; ComponentLink1URL: https://www.we-online.com/redexpert/article/68712814522?ad; ComponentLink2Description: Datasheet Link; ComponentLink2URL: https://www.we-online.com/redexpert/spec/68712814522?ad; Manufacturer Part Number: 68712814522; Category: FPC Connectors; Match Code: WR-FPC; Mount: Surface Mount; Operating Temperature Max: 85°C; Operating Temperature Min: -25°C; Packaging: Tape and Reel; Length: 20.4mm; Width: 5.1mm; Height: 2.1mm; Number of Pins: 28; Orientation: Horizontal; Pitch: 0.5mm
footprint 68712814522
pins: 1, 2, 3, 4, 5, 6, 7, 8, 9, 10, 11, 12, 13, 14, 15, 16, 17, 18, 19, 20, 21, 22, 23, 24, 25, 26, 27, 28, M1, M2